# Altium footprint library HDRV2W64P254_1X2_508X254X900B.PcbLib: 1 footprints
Each footprint in its own frame and in the unit in brackets; x right, y up, seen from the top. Pads: shape width x height; smd on the part's side, far side on the other; paste and mask are expansions set on the pad; w line width, h text height; cw(c..) or ccw(c..) is an arc to the next point about the centre after c.
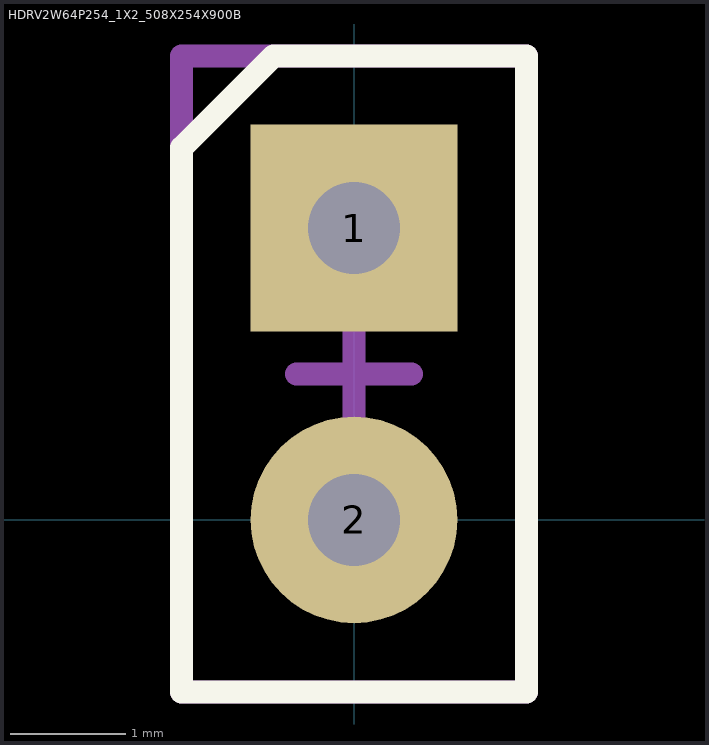
[diagram p0: the footprint, top view; thin cyan lines are the x and y axes]

## HDRV2W64P254_1X2_508X254X900B [mm] "Header 1x2"
height 9
pads (2):
  rect 1.8x1.8 hole 0.8: 1(0,2.54)
  round 1.8 hole 0.8: 2(0,0)
Top Overlay:
  lines w0.2: -1.5,-1.5 -1.5,3.24 -0.7,4.04 1.5,4.04 1.5,-1.5 -1.5,-1.5
Mechanical 13:
  lines w0.2: -1.5,-1.5 1.5,-1.5 1.5,4.04 -1.5,4.04 -1.5,-1.5
Mechanical 15:
  lines w0.2: -0.5,1.27 0.5,1.27 ; 0,0.77 0,1.77 ; -1.5,-1.5 -1.5,4.04 1.5,4.04 1.5,-1.5 -1.5,-1.5